# Altium footprint library PCB12.PcbLib: 21 footprints (part 1 of 2)
Each footprint in its own frame and in the unit in brackets; x right, y up, seen from the top. Pads: shape width x height; smd on the part's side, far side on the other; paste and mask are expansions set on the pad; w line width, h text height; cw(c..) or ccw(c..) is an arc to the next point about the centre after c.
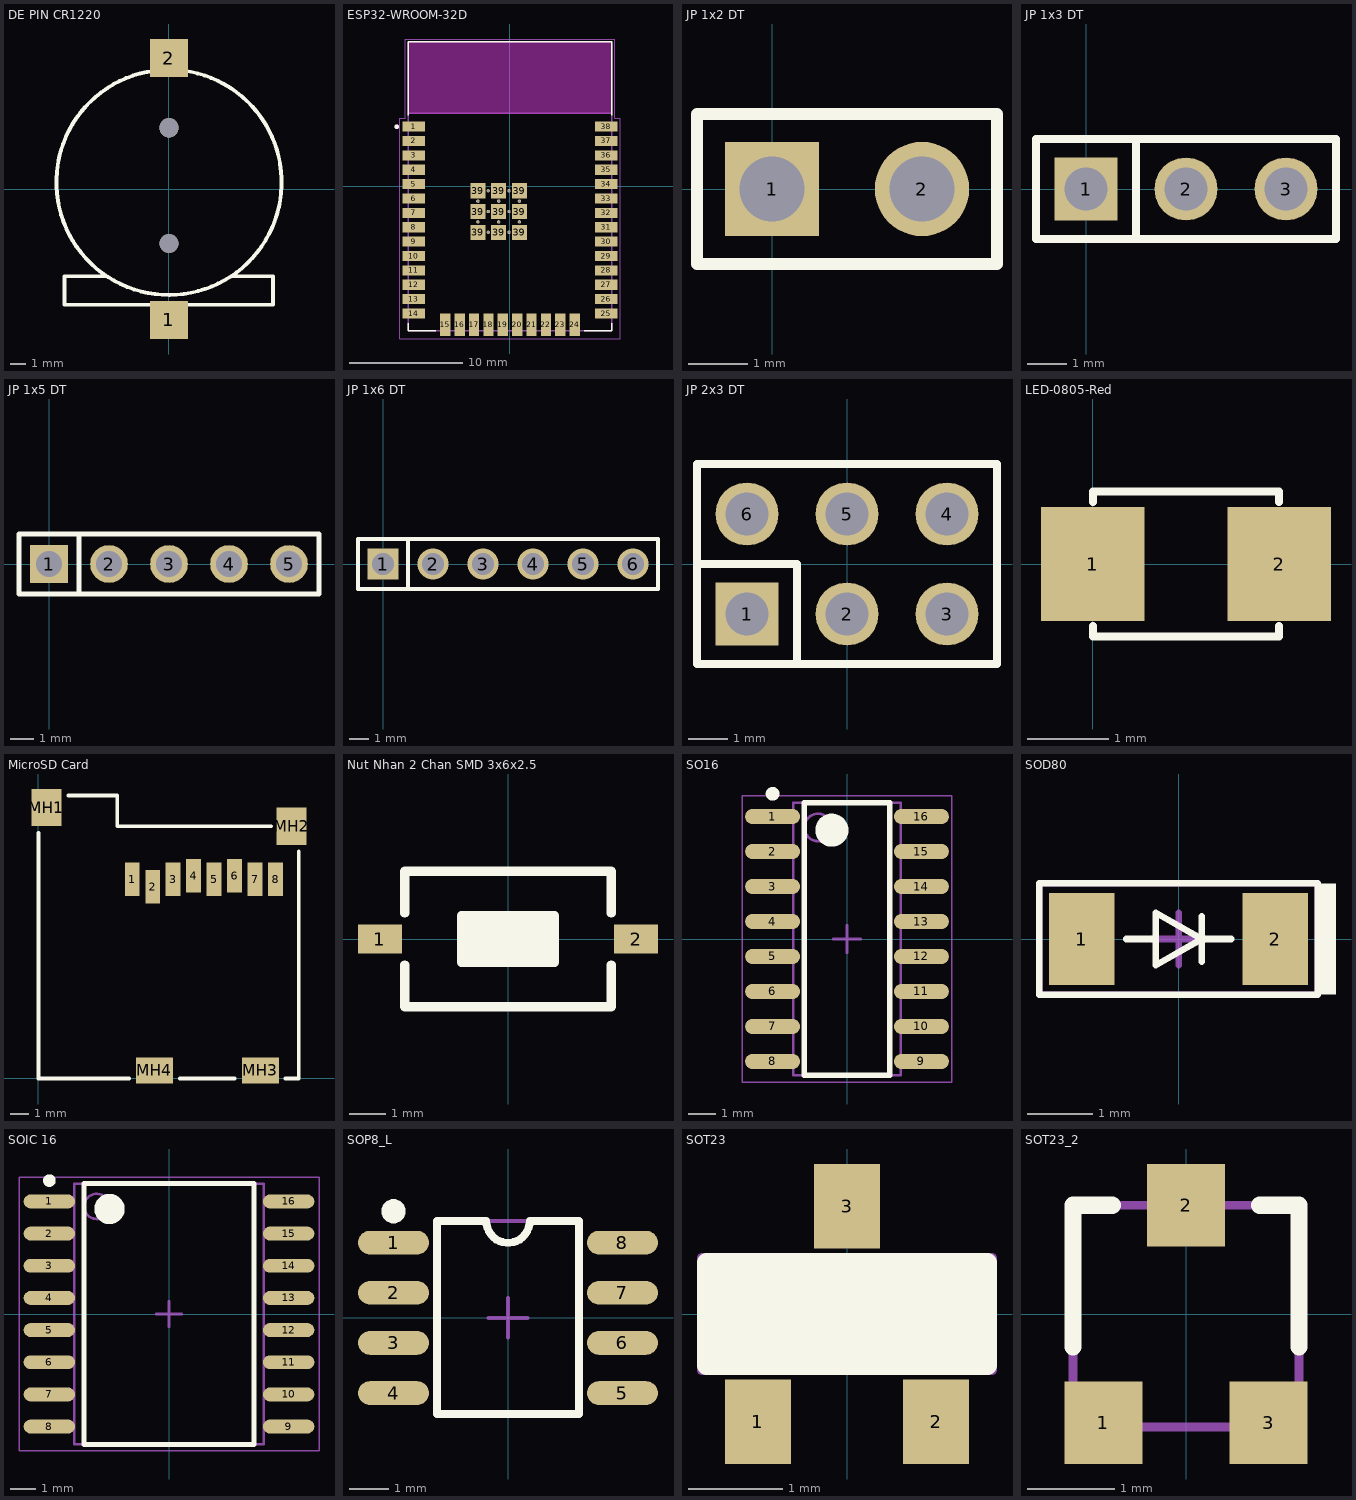
[diagram p0: the footprints below, top view; thin cyan lines are the x and y axes]

## DE PIN CR1220 [mm]
pads (2):
  rect 2.5x2.5 smd: 1(0,-8.6) 2(0,8.6)
via 0.005,-3.579 diameter 1.27 hole 1.27
via 0,4.026 diameter 1.27 hole 1.27
Top Overlay:
  lines w0.254: -4.194,-5.725 -6.868,-5.725 -6.868,-7.6 6.833,-7.6 6.833,-5.725 4.158,-5.725 ; -0.038,7.836 ccw(c0.005,0.439) 0,7.836
3D body "CR1220 SMD.STEP": height 4.27, standoff -0.48, extent -7.389,-9.42 7.36,9.38

## ESP32-WROOM-32D [mm]
pads (59):
  rect 2x0.9 smd: 1(-8.5,5.26) 2(-8.5,3.99) 3(-8.5,2.72) 4(-8.5,1.45) 5(-8.5,0.18) 6(-8.5,-1.09) 7(-8.5,-2.36) 8(-8.5,-3.63) 9(-8.5,-4.9) 10(-8.5,-6.17) 11(-8.5,-7.44) 12(-8.5,-8.71) 13(-8.5,-9.98) 14(-8.5,-11.25) 25(8.5,-11.25) 26(8.5,-9.98) 27(8.5,-8.71) 28(8.5,-7.44) 29(8.5,-6.17) 30(8.5,-4.9) 31(8.5,-3.63) 32(8.5,-2.36) 33(8.5,-1.09) 34(8.5,0.18) 35(8.5,1.45) 36(8.5,2.72) 37(8.5,3.99) 38(8.5,5.26)
  rect 0.9x2 smd: 15(-5.715,-12.25) 16(-4.445,-12.25) 17(-3.175,-12.25) 18(-1.905,-12.25) 19(-0.635,-12.25) 20(0.635,-12.25) 21(1.905,-12.25) 22(3.175,-12.25) 23(4.445,-12.25) 24(5.715,-12.25)
  rect 1.33x1.33 smd: 39(-2.835,-4.075) 39(-2.835,-2.24) 39(-2.835,-0.405) 39(-1,-4.075) 39(-1,-2.24) 39(-1,-0.405) 39(0.835,-4.075) 39(0.835,-2.24) 39(0.835,-0.405)
  round 0.3 hole 0.2: 39(-2.835,-3.157) 39(-2.835,-1.322) 39(-1.917,-4.075) 39(-1.917,-2.24) 39(-1.917,-0.405) 39(-1,-3.157) 39(-1,-1.322) 39(-0.082,-4.075) 39(-0.082,-2.24) 39(-0.082,-0.405) 39(0.835,-3.157) 39(0.835,-1.322)
Top Overlay:
  circle w0.2: c-10,5.25 r0.1
  lines w0.127: -9,-12.1 -9,-12.75 -6.55,-12.75 ; -9,6.25 -9,12.75 9,12.75 9,6.25 ; 6.55,-12.75 9,-12.75 9,-12.1
Keep-Out Layer:
  region: 9,6.45 -9,6.45 -9,12.75 9,12.75
  region: 9,6.45 -9,6.45 -9,12.75 9,12.75
Mechanical 13:
  circle w0.2: c-10,5.25 r0.1
  lines w0.127: -9,6.45 9,6.45 ; -9,6.45 -9,12.75 9,12.75 9,6.45 ; -9,6.45 -9,-12.75 9,-12.75 9,6.45
  text "ANTENNA" at -6,9 h0.7
Mechanical 15:
  lines w0.05: -9.75,-13.5 -9.75,6 -9.25,6 -9.25,13 9.25,13 9.25,6 9.75,6 9.75,-13.5 -9.75,-13.5
3D body "ESP32-WROOM-32.STEP": height 3.2, standoff 0, extent -9,-12.623 9,12.877

## JP 1x2 DT [mm] "2 pins, 1 row, straight, gold plating"
height 8.54
pads (2):
  rect 1.6x1.6 hole 1.1: 1(0,0)
  round 1.6 hole 1.1: 2(2.54,0)
Top Overlay:
  lines w0.2: -1.27,-1.27 3.81,-1.27 3.81,1.27 -1.27,1.27 -1.27,-1.27
3D body "61300211121.stp": height 8.54, standoff -3, extent -1.27,-1.27 3.81,1.27

## JP 1x3 DT [mm]
height 8.54
pads (3):
  rect 1.6x1.6 hole 1.1: 1(0,0)
  round 1.6 hole 1.1: 2(2.54,0) 3(5.08,0)
Top Overlay:
  lines w0.2: 1.27,-1.27 1.27,1.27 ; -1.27,-1.27 -1.27,1.27 6.35,1.27 6.35,-1.27 -1.27,-1.27
3D body "61300311121.stp": height 8.54, standoff -3, extent -1.27,-1.27 6.35,1.27

## JP 1x5 DT [mm] "5 pins, 1 row, straight, gold plating"
height 8.54
pads (5):
  rect 1.6x1.6 hole 1.1: 1(0,0)
  round 1.6 hole 1.1: 2(2.54,0) 3(5.08,0) 4(7.62,0) 5(10.16,0)
Top Overlay:
  lines w0.2: 1.27,-1.27 1.27,1.27 ; -1.27,-1.27 -1.27,1.27 11.43,1.27 11.43,-1.27 -1.27,-1.27
3D body "61300511121.stp": height 8.54, standoff -3, extent -1.27,-1.27 11.43,1.27

## JP 1x6 DT [mm] "6 pins, 1 row, straight, gold plating"
height 8.54
pads (6):
  rect 1.6x1.6 hole 1.1: 1(0,0)
  round 1.6 hole 1.1: 2(2.54,0) 3(5.08,0) 4(7.62,0) 5(10.16,0) 6(12.7,0)
Top Overlay:
  lines w0.2: 1.27,-1.27 1.27,1.27 ; -1.27,-1.27 -1.27,1.27 13.97,1.27 13.97,-1.27 -1.27,-1.27
3D body "61300611121.stp": height 8.54, standoff -3, extent -1.27,-1.27 13.97,1.27

## JP 2x3 DT [mm]
height 8.54
pads (6):
  rect 1.6x1.6 hole 1.1: 1(-2.54,-1.27)
  round 1.6 hole 1.1: 2(0,-1.27) 3(2.54,-1.27) 4(2.54,1.27) 5(0,1.27) 6(-2.54,1.27)
Top Overlay:
  lines w0.2: -3.81,0 -1.27,0 -1.27,-2.54 ; -3.81,-2.54 -3.81,2.54 3.81,2.54 3.81,-2.54 -3.81,-2.54
3D body "61300621121.stp": height 8.55, standoff -2.99, extent -3.81,-2.54 3.81,2.54

## LED-0805-Red [mil]
pads (2):
  rect 50x55 smd: 1(0,0) 2(90,0)
Top Overlay:
  lines w4: 0,-30 0,-35 90,-35 90,-30 ; 0,30 0,35 90,35 90,30
3D body "User Library-led_0805-red.step": height 43.31, standoff 0, extent 5.25,-24.6 84.77,24.62

## MicroSD Card [mm] "Connector; SD Card Type A, SM, 9 Position, Right Angle, Pitch 2.5 mm, Body 23.3 x 27.4 x 3.4 mm (LxWxH)"
height 3.4
pads (12):
  rect 0.8x1.8 smd: 1(5.04,10.7) 2(6.14,10.3) 3(7.24,10.7) 4(8.34,10.9) 5(9.44,10.7) 6(10.54,10.9) 7(11.64,10.7) 8(12.74,10.7)
  rect 1.6x2 smd: MH1(0.43,14.55) MH2(13.6,13.55)
  rect 2x1.4 smd: MH3(11.93,0.43) MH4(6.23,0.43)
Top Overlay:
  lines w0.2: 0,13.18 0,0 4.87,0 ; 1.6,15.2 4.24,15.2 4.24,13.55 12.5,13.55 ; 7.59,0 10.55,0 ; 13.27,0 13.98,0 13.98,12.19
3D body "SW3dPS-micro sd soket.STEP": height 1.72, standoff -0.01, extent -0.21,-0.49 14.39,15.51

## Nut Nhan 2 Chan SMD 3x6x2.5 [mm] "Switch SMD type"
pads (2):
  rect 1.2x0.8 smd: 1(-3.5,0) 2(3.5,0)
Top Overlay:
  rectangle: -1.27,-0.635 1.27,0.635
  lines w0.254: -2.819,-0.711 -2.819,-1.854 2.819,-1.854 2.819,-0.711 ; -2.819,0.711 -2.819,1.854 2.819,1.854 2.819,0.711 ; -1.27,-0.635 1.27,-0.635 1.27,0.635 -1.27,0.635 -1.27,-0.635
3D body "User Library-Button-SMD.step": height 2.5, standoff 0, extent -3.05,-1.85 3.05,1.85

## SO16 [mm] "SOIC, 16-Leads, Body 9.90x3.91mm, Pitch 1.27mm, IPC Medium Density"
height 1.75
pads (16):
  oval 2x0.55 smd: 1(-2.7,4.445) 2(-2.7,3.175) 3(-2.7,1.905) 4(-2.7,0.635) 5(-2.7,-0.635) 6(-2.7,-1.905) 7(-2.7,-3.175) 8(-2.7,-4.445) 9(2.7,-4.445) 10(2.7,-3.175) 11(2.7,-1.905) 12(2.7,-0.635) 13(2.7,0.635) 14(2.7,1.905) 15(2.7,3.175) 16(2.7,4.445)
Top Overlay:
  circle w0.6: c-0.55,3.95 r0.3
  circle w0.25: c-2.7,5.27 r0.125
  lines w0.2: -1.55,-4.95 1.55,-4.95 1.55,4.95 -1.55,4.95 -1.55,-4.95
Mechanical 13:
  circle w0.1: c-1.05,4.05 r0.5
  lines w0.1: -1.95,-4.95 1.95,-4.95 1.95,4.95 -1.95,4.95 -1.95,-4.95
Mechanical 15:
  lines w0.05: -3.81,-5.2 3.81,-5.2 3.81,5.2 -3.81,5.2 -3.81,-5.2
  lines w0.1: -0.5,0 0.5,0 ; 0,-0.5 0,0.5
3D body "User Library-SOIC-16-1.step": height 1.4, standoff 0, extent -3,-4.95 3,4.95

## SOD80 [mm] "Diodes - General Purpose"
pads (2):
  rect 1x1.4 smd: 1(-1.475,0) 2(1.475,0)
Top Overlay:
  region: 2.4,0.85 2.1,0.85 2.1,-0.85 2.4,-0.85
  lines w0.1: -0.8,0 -0.35,0 ; 0.35,-0.35 0.35,0.35 ; 0.8,0 0.35,0 ; 0.35,0 -0.35,0.4 -0.35,-0.4 0.35,0 ; -2.125,-0.85 -2.125,0.85 2.125,0.85 2.125,-0.85 -2.125,-0.85
Mechanical 13:
  lines w0.1: -2.125,-0.85 2.125,-0.85 2.125,0.85 -2.125,0.85 -2.125,-0.85
Mechanical 15:
  lines w0.1: -0.4,0 0.4,0 ; 0,-0.4 0,0.4
3D body "User Library-smd diode 1206.STEP": height 1.43, standoff -0.02, extent -1.74,-0.72 1.76,0.73

## SOIC 16 [mm] "SOIC, 16-Leads, Body 10.30x7.50mm, Pitch 1.27mm, IPC Medium Density"
height 2.4
pads (16):
  oval 2.032x0.55 smd: 1(-4.725,4.445) 2(-4.725,3.175) 3(-4.725,1.905) 4(-4.725,0.635) 5(-4.725,-0.635) 6(-4.725,-1.905) 7(-4.725,-3.175) 8(-4.725,-4.445) 9(4.725,-4.445) 10(4.725,-3.175) 11(4.725,-1.905) 12(4.725,-0.635) 13(4.725,0.635) 14(4.725,1.905) 15(4.725,3.175) 16(4.725,4.445)
Top Overlay:
  circle w0.6: c-2.35,4.15 r0.3
  circle w0.25: c-4.725,5.27 r0.125
  lines w0.2: -3.35,-5.15 3.35,-5.15 3.35,5.15 -3.35,5.15 -3.35,-5.15
Mechanical 13:
  circle w0.1: c-2.85,4.25 r0.5
  lines w0.1: -3.75,-5.15 3.75,-5.15 3.75,5.15 -3.75,5.15 -3.75,-5.15
Mechanical 15:
  lines w0.05: -5.925,-5.4 5.925,-5.4 5.925,5.4 -5.925,5.4 -5.925,-5.4
  lines w0.1: -0.5,0 0.5,0 ; 0,-0.5 0,0.5
3D body "User Library-SO-16W.STEP": height 2.48, standoff 0, extent -5.155,-5.165 5.155,5.165

## SOP8_L [mm] "SOIC, 8-Leads, Body 4.9x3.9mm, Pitch 1.27mm, IPC High Density"
height 1.75
pads (8):
  oval 1.8x0.6 smd: 1(-2.9,1.905) 2(-2.9,0.635) 3(-2.9,-0.635) 4(-2.9,-1.905) 5(2.9,-1.905) 6(2.9,-0.635) 7(2.9,0.635) 8(2.9,1.905)
Top Overlay:
  region: -2.9,2.4 -2.96,2.4 -3.07,2.446 -3.154,2.53 -3.2,2.64 -3.2,2.7 -3.2,2.76 -3.154,2.87 -3.07,2.954 -2.96,3 -2.9,3 -2.84,3 -2.73,2.954 -2.646,2.87 -2.6,2.76 -2.6,2.7 -2.6,2.64 -2.646,2.53 -2.73,2.446 -2.84,2.4
  lines w0.2: -1.8,-2.44 -1.8,2.45 -0.55,2.45 ccw(c0,2.45) 0.55,2.45 1.8,2.45 1.8,-2.44 -1.8,-2.44
Mechanical 13:
  lines w0.1: -1.8,-2.44 -1.8,2.45 1.8,2.45 1.8,-2.44 -1.8,-2.44
Mechanical 15:
  lines w0.1: -0.5,0 0.5,0 ; 0,-0.5 0,0.5
3D body "User Library-SOIC-8-1.STEP": height 1.75, standoff 0, extent -3.01,-2.45 2.99,2.45

## SOT23 [mm] "SOT 23 _ 1-3-2"
height 1.27
pads (3):
  rect 0.7x0.9 smd: 1(-0.95,-1.15) 2(0.95,-1.15) 3(0,1.15)
Top Overlay:
  region: -1.5,-0.55 1.5,-0.55 1.5,0.55 -1.5,0.55
  lines w0.2: -1.5,-0.55 1.5,-0.55 1.5,0.55 -1.5,0.55 -1.5,-0.55
Mechanical 13:
  lines w0.1: -1.55,-0.6 -1.55,0.6 1.55,0.6 1.55,-0.6 -1.55,-0.6
Mechanical 15:
  lines w0.1: -0.5,0 0.5,0 ; 0,-0.5 0,0.5
3D body "SW3DPS-SOT-23-DEFAULT.STEP": height 1.06, standoff -0.04, extent -1.5,-1.28 1.5,1.22

## SOT23_2 [mm]
pads (3):
  rect 0.9x0.95 smd: 1(-0.95,-1.25) 2(0,1.25)
  rect 0.9x0.95 smd mask+0: 3(0.95,-1.25)
Top Overlay:
  lines w0.2: -1.3,-0.375 -1.3,1.25 -0.85,1.25 ; 0.85,1.25 1.3,1.25 1.3,-0.375
Mechanical 7:
  region: 1.225,-1.275 0.625,-1.275 0.625,-1.525 1.225,-1.525
  region: -0.625,-1.275 -1.225,-1.275 -1.225,-1.525 -0.625,-1.525
  rectangle: -0.3,1.25 0.3,1.5
  lines w0.1: -1.3,-1.3 1.3,-1.3 1.3,1.25 -1.3,1.25 -1.3,-1.3
  text ".Designator" at -1.2,0.75 h0.7
  text ".Comment" at -1.2,0.325 h0.7
3D body "SW3DPS-SOT-23-DEFAULT.STEP": height 1.06, standoff -0.04, extent -1.524,-1.23 1.476,1.27